# Altium footprint library 4.20-PH2.0直插插座.PcbLib: 11 footprints
Each footprint in its own frame and in the unit in brackets; x right, y up, seen from the top. Pads: shape width x height; smd on the part's side, far side on the other; paste and mask are expansions set on the pad; w line width, h text height; cw(c..) or ccw(c..) is an arc to the next point about the centre after c.
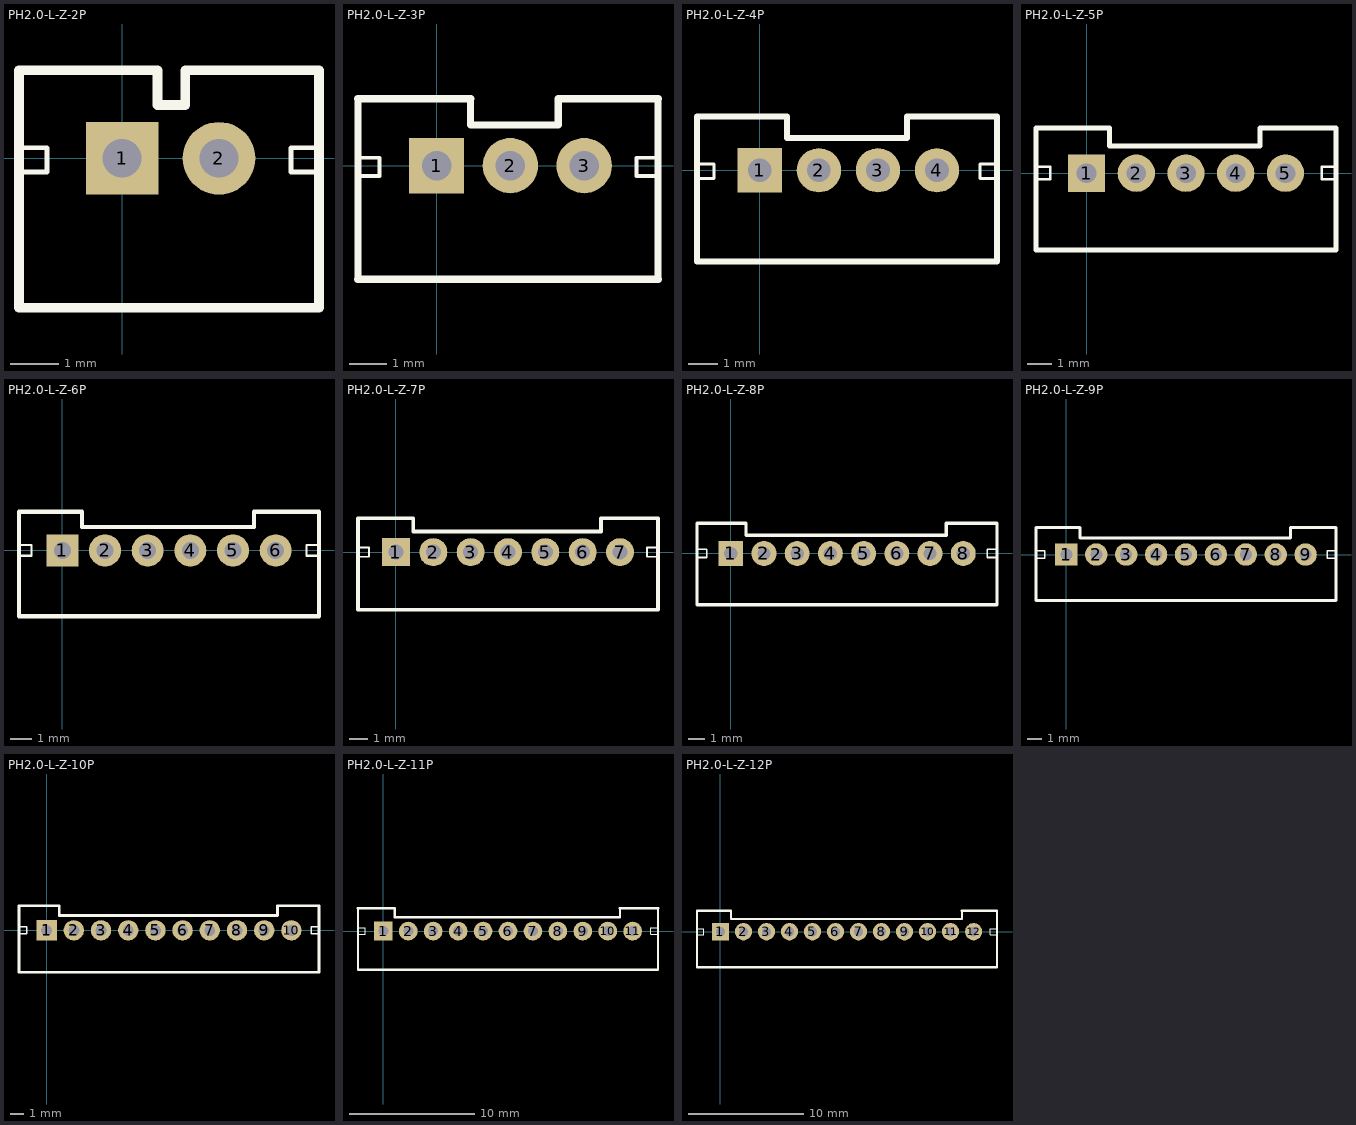
[diagram p0: the footprints below, top view; thin cyan lines are the x and y axes]

## PH2.0-L-Z-2P [mm] "PH2.0 2P立式直插 间距2mm        淘宝ID:黄晶宝石"
height 10
pads (2):
  rect 1.5x1.5 hole 0.8: 1(0,0)
  round 1.5 hole 0.8: 2(2,0)
Top Overlay:
  lines w0.1: -2.128,-0.284 -1.548,-0.284 -1.548,0.216 -2.128,0.216 ; 4.064,-0.284 3.484,-0.284 3.484,0.216 4.064,0.216
  lines w0.2: -2.128,-3.084 -2.128,1.816 ; 0.73,1.816 0.73,1.1 1.302,1.1 1.302,1.816 ; 4.064,-3.084 4.064,1.816
  lines w0.203: -2.128,-3.084 4,-3.084 ; -2.128,1.816 0.73,1.816 ; 1.302,1.816 4,1.816
3D body: height 6, standoff -3, extent -1.95,-3 3.95,1.7

## PH2.0-L-Z-3P [mm] "PH2.0 3P立式直插 间距2mm        淘宝ID:黄晶宝石"
height 10
pads (3):
  rect 1.5x1.5 hole 0.8: 1(0,0)
  round 1.5 hole 0.8: 2(2,0) 3(4,0)
Top Overlay:
  lines w0.1: -2.128,-0.284 -1.548,-0.284 -1.548,0.216 -2.128,0.216 ; 6,-0.284 5.42,-0.284 5.42,0.216 6,0.216
  lines w0.2: -2.128,-3.084 -2.128,1.816 ; 0.92,1.816 0.92,1.1 3.302,1.1 3.302,1.816 ; 6,-3.084 6,1.816
  lines w0.203: -2.128,-3.084 6,-3.084 ; -2.128,1.816 0.92,1.816 ; 3.302,1.816 6,1.816
3D body: height 6, standoff -3, extent -1.95,-3 5.95,1.7

## PH2.0-L-Z-4P [mm] "PH2.0 4P立式直插 间距2mm        淘宝ID:黄晶宝石"
height 10
pads (4):
  rect 1.5x1.5 hole 0.8: 1(0,0)
  round 1.5 hole 0.8: 2(2,0) 3(4,0) 4(6,0)
Top Overlay:
  lines w0.1: -2.128,-0.284 -1.548,-0.284 -1.548,0.216 -2.128,0.216 ; 8.032,-0.284 7.452,-0.284 7.452,0.216 8.032,0.216
  lines w0.2: -2.128,1.816 -2.128,-3.084 8.032,-3.084 8.032,1.816 ; 0.92,1.816 0.92,1.1 4.984,1.1 4.984,1.816
  lines w0.203: -2.128,1.816 0.92,1.816 ; 4.984,1.816 8.032,1.816
3D body: height 6, standoff -3, extent -1.981,-3 7.919,1.7

## PH2.0-L-Z-5P [mm] "PH2.0 5P立式直插 间距2mm        淘宝ID:黄晶宝石"
height 10
pads (5):
  rect 1.5x1.5 hole 0.8: 1(0,0)
  round 1.5 hole 0.8: 2(2,0) 3(4,0) 4(6,0) 5(8,0)
Top Overlay:
  lines w0.1: -2.032,-0.246 -1.452,-0.246 -1.452,0.254 -2.032,0.254 ; 10.032,-0.246 9.452,-0.246 9.452,0.254 10.032,0.254
  lines w0.2: -2.032,1.816 -2.032,-3.084 10.032,-3.084 10.032,1.816 ; 0.92,1.816 0.92,1.1 6.984,1.1 6.984,1.816
  lines w0.203: -2.032,1.816 0.92,1.816 ; 6.984,1.816 10.032,1.816
3D body: height 6, standoff -3, extent -1.886,-3.049 10.014,1.651

## PH2.0-L-Z-6P [mm] "PH2.0 6P立式直插 间距2mm        淘宝ID:黄晶宝石"
height 10
pads (6):
  rect 1.5x1.5 hole 0.8: 1(0,0)
  round 1.5 hole 0.8: 2(2,0) 3(4,0) 4(6,0) 5(8,0) 6(10,0)
Top Overlay:
  lines w0.1: -2.032,-0.246 -1.452,-0.246 -1.452,0.254 -2.032,0.254 ; 12.032,-0.246 11.452,-0.246 11.452,0.254 12.032,0.254
  lines w0.2: -2.032,1.816 -2.032,-3.084 12.032,-3.084 12.032,1.816 ; 0.92,1.816 0.92,1.1 8.984,1.1 8.984,1.816
  lines w0.203: -2.032,1.816 0.92,1.816 ; 8.984,1.816 12.032,1.816
3D body: height 6, standoff -3, extent -1.997,-2.921 11.903,1.779

## PH2.0-L-Z-7P [mm] "PH2.0 7P立式直插 间距2mm        淘宝ID:黄晶宝石"
height 10
pads (7):
  rect 1.5x1.5 hole 0.8: 1(0,0)
  round 1.5 hole 0.8: 2(2,0) 3(4,0) 4(6,0) 5(8,0) 6(10,0) 7(12,0)
Top Overlay:
  lines w0.1: -2.032,-0.246 -1.452,-0.246 -1.452,0.254 -2.032,0.254 ; 14.032,-0.246 13.452,-0.246 13.452,0.254 14.032,0.254
  lines w0.2: -2.032,1.816 -2.032,-3.084 14.032,-3.084 14.032,1.816 ; 0.92,1.816 0.92,1.1 10.984,1.1 10.984,1.816
  lines w0.203: -2.032,1.816 0.92,1.816 ; 10.984,1.816 14.032,1.816
3D body: height 6, standoff -3, extent -1.95,-3 13.95,1.7

## PH2.0-L-Z-8P [mm] "PH2.0 8P立式直插 间距2mm        淘宝ID:黄晶宝石"
height 10
pads (8):
  rect 1.5x1.5 hole 0.8: 1(0,0)
  round 1.5 hole 0.8: 2(2,0) 3(4,0) 4(6,0) 5(8,0) 6(10,0) 7(12,0) 8(14,0)
Top Overlay:
  lines w0.1: -2.032,-0.246 -1.452,-0.246 -1.452,0.254 -2.032,0.254 ; 16.032,-0.246 15.452,-0.246 15.452,0.254 16.032,0.254
  lines w0.2: -2.032,1.816 -2.032,-3.084 16.032,-3.084 16.032,1.816 ; 0.92,1.816 0.92,1.1 12.984,1.1 12.984,1.816
  lines w0.203: -2.032,1.816 0.92,1.816 ; 12.984,1.816 16.032,1.816
3D body: height 6, standoff -3, extent -1.95,-3 15.95,1.7

## PH2.0-L-Z-9P [mm] "PH2.0 9P立式直插 间距2mm        淘宝ID:黄晶宝石"
height 10
pads (9):
  rect 1.5x1.5 hole 0.8: 1(0,0)
  round 1.5 hole 0.8: 2(2,0) 3(4,0) 4(6,0) 5(8,0) 6(10,0) 7(12,0) 8(14,0) 9(16,0)
Top Overlay:
  lines w0.1: -2.032,-0.246 -1.452,-0.246 -1.452,0.254 -2.032,0.254 ; 18.032,-0.246 17.452,-0.246 17.452,0.254 18.032,0.254
  lines w0.2: -2.032,1.816 -2.032,-3.084 18.032,-3.084 18.032,1.816 ; 0.92,1.816 0.92,1.1 14.984,1.1 14.984,1.816
  lines w0.203: -2.032,1.816 0.92,1.816 ; 14.984,1.816 18.032,1.816
3D body: height 6, standoff -3, extent -1.95,-3 17.95,1.7

## PH2.0-L-Z-10P [mm] "PH2.0 10P立式直插 间距2mm        淘宝ID:黄晶宝石"
height 10
pads (10):
  rect 1.5x1.5 hole 0.8: 1(0,0)
  round 1.5 hole 0.8: 2(2,0) 3(4,0) 4(6,0) 5(8,0) 6(10,0) 7(12,0) 8(14,0) 9(16,0) 10(18,0)
Top Overlay:
  lines w0.1: -2.032,-0.246 -1.452,-0.246 -1.452,0.254 -2.032,0.254 ; 20.032,-0.246 19.452,-0.246 19.452,0.254 20.032,0.254
  lines w0.2: -2.032,1.816 -2.032,-3.084 20.032,-3.084 20.032,1.816 ; 0.92,1.816 0.92,1.1 16.984,1.1 16.984,1.816
  lines w0.203: -2.032,1.816 0.92,1.816 ; 16.984,1.816 20.032,1.816
3D body: height 6, standoff -3, extent -2.17,-2.873 19.73,1.827

## PH2.0-L-Z-11P [mm] "PH2.0 11P立式直插 间距2mm        淘宝ID:黄晶宝石"
height 10
pads (11):
  rect 1.5x1.5 hole 0.8: 1(0,0)
  round 1.5 hole 0.8: 2(2,0) 3(4,0) 4(6,0) 5(8,0) 6(10,0) 7(12,0) 8(14,0) 9(16,0) 10(18,0) 11(20,0)
Top Overlay:
  lines w0.1: -2.032,-0.246 -1.452,-0.246 -1.452,0.254 -2.032,0.254 ; 22.032,-0.246 21.452,-0.246 21.452,0.254 22.032,0.254
  lines w0.2: -2.032,1.816 -2.032,-3.084 22.032,-3.084 22.032,1.816 ; 0.92,1.816 0.92,1.1 18.984,1.1 18.984,1.816
  lines w0.203: -2.032,1.816 0.92,1.816 ; 18.984,1.816 22.032,1.816
3D body: height 6, standoff -3, extent -1.95,-3 21.95,1.7

## PH2.0-L-Z-12P [mm] "PH2.0 12P立式直插 间距2mm        淘宝ID:黄晶宝石"
height 10
pads (12):
  rect 1.5x1.5 hole 0.8: 1(0,0)
  round 1.5 hole 0.8: 2(2,0) 3(4,0) 4(6,0) 5(8,0) 6(10,0) 7(12,0) 8(14,0) 9(16,0) 10(18,0) 11(20,0) 12(22,0)
Top Overlay:
  lines w0.1: -2.032,-0.246 -1.452,-0.246 -1.452,0.254 -2.032,0.254 ; 24.032,-0.246 23.452,-0.246 23.452,0.254 24.032,0.254
  lines w0.2: -2.032,1.816 -2.032,-3.084 24.032,-3.084 24.032,1.816 ; 0.92,1.816 0.92,1.1 20.984,1.1 20.984,1.816
  lines w0.203: -2.032,1.816 0.92,1.816 ; 20.984,1.816 24.032,1.816
3D body: height 6, standoff -3, extent -1.95,-3 23.95,1.7